# Altium schematic symbol library 74HC08D.Schlib: 1 symbol
Pins are listed as number, name and electrical type; pins without a type are passive.

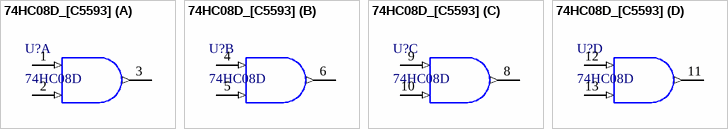
[diagram p0: symbol 74HC08D_[C5593]]

## 74HC08D_[C5593]
designator U?, comment 74HC08D
74系列逻辑芯片
footprint SOIC-14_150mil
pins on every part: 7 GND (power) hidden, 14 VDD (power) hidden
part A pins: 1 A (in), 2 B (in), 3 Y (out)
part B pins: 4 A (in), 5 B (in), 6 Y (out)
part C pins: 8 Y (out), 9 A (in), 10 B (in)
part D pins: 11 Y (out), 12 A (in), 13 B (in)